# Altium schematic symbol library TriggersLib.SchLib: 41 symbols
Pins are listed as number, name and electrical type; pins without a type are passive.

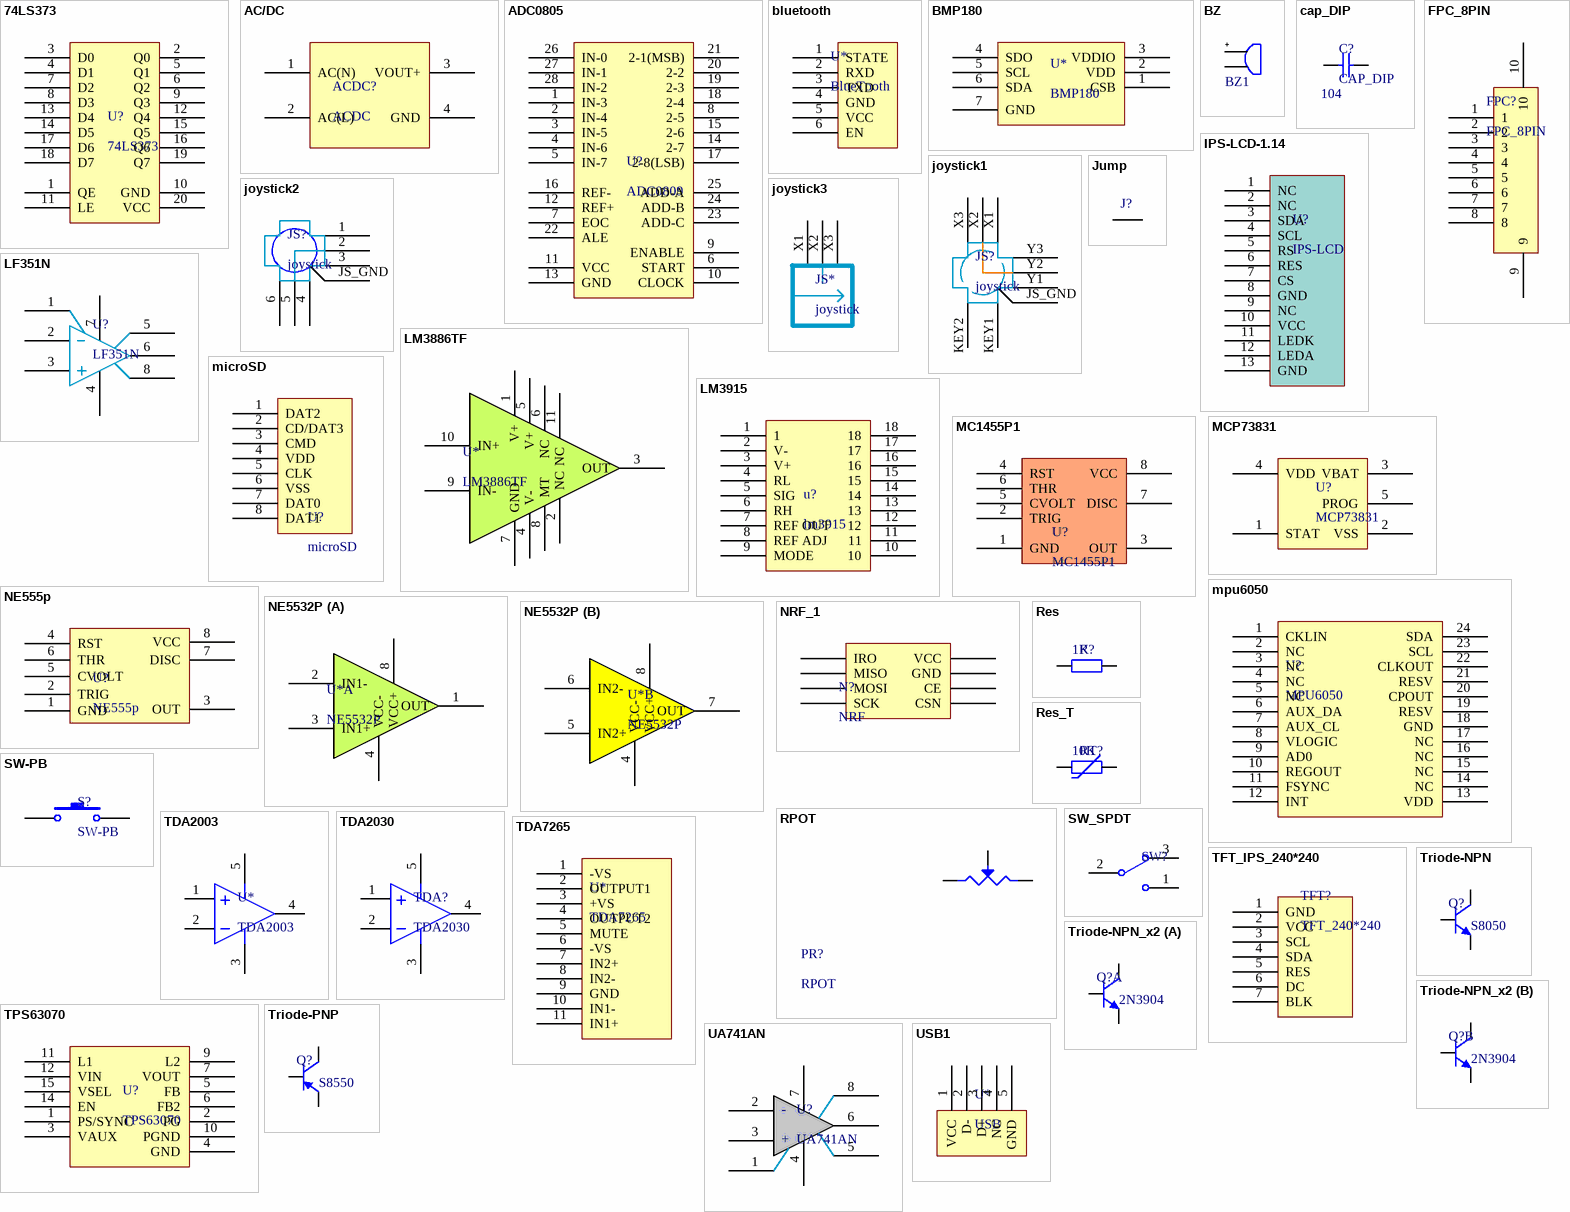
[diagram p0: symbols 74LS373 to USB1]

## 74LS373
designator U?
三态输出的八D锁存器
footprint DIP20
pins: 1 QE, 2 Q0, 3 D0, 4 D1, 5 Q1, 6 Q2, 7 D2, 8 D3, 9 Q3, 10 GND, 11 LE, 12 Q4, 13 D4, 14 D5, 15 Q5, 16 Q6, 17 D6, 18 D7, 19 Q7, 20 VCC

## AC/DC
designator ACDC?, comment ACDC
ACDC电源模块
footprint ACDC (ACDC电源模块)
pins: 1 AC(N), 2 AC(L), 3 VOUT+, 4 GND

## ADC0805
designator U?, comment ADC0809
8位A/D转换器
footprint SOP28
pins: 1 IN-3, 2 IN-4, 3 IN-5, 4 IN-6, 5 IN-7, 6 START, 7 EOC, 8 2-5, 9 ENABLE, 10 CLOCK, 11 VCC, 12 REF+, 13 GND, 14 2-7, 15 2-6, 16 REF-, 17 2-8(LSB), 18 2-4, 19 2-3, 20 2-2, 21 2-1(MSB), 22 ALE, 23 ADD-C, 24 ADD-B, 25 ADD-A, 26 IN-0, 27 IN-1, 28 IN-2

## bluetooth
designator U*, comment BlueTooth
蓝牙模块
footprint Buletooth_DIP
pins: 1 STATE, 2 RXD, 3 TXD, 4 GND, 5 VCC, 6 EN

## BMP180
designator U*
数字气压传感器
footprint LGA-7 (LGA-7Pin)
pins: 1 CSB, 2 VDD, 3 VDDIO, 4 SDO, 5 SCL, 6 SDA, 7 GND

## BZ
designator BZ1, comment buzz  (value not drawn)
蜂鸣器
footprint Buzz SMD5020 (Footprint not found)
pins: 1, 2
text: +

## cap_DIP
designator C?, comment CAP_DIP  CAP: 104
footprint C5X7W1
footprint C4X7
footprint C5X7W2
footprint C5X8 (RB.1/.2)
footprint C6X8
footprint CAP4MM
pins: 1, 2

## FPC_8PIN
designator FPC?
FPC插槽
footprint FPC-0.5MM-LSXJ-H2.0-8P
pins: 1, 2, 3, 4, 5, 6, 7, 8, 9, 10

## IPS-LCD-1.14
designator U?, comment IPS-LCD
IPS-LCD-1.14寸裸屏spi接口
footprint 1.14IPS-LCD (1.14寸IPS-LCD裸屏SPI接口)
pins: 1 NC, 2 NC, 3 SDA, 4 SCL, 5 RS, 6 RES, 7 CS, 8 GND, 9 NC, 10 VCC, 11 LEDK, 12 LEDA, 13 GND

## joystick1
designator JS?, comment joystick
双轴有开关摇杆; JS: *
footprint JoyStick1
pins: JS_GND 7, KEY1 11, KEY2 12, X1 6, X2 5, X3 4, Y1 3, Y2 2, Y3 1

## joystick2
designator JS?, comment joystick
双轴无开关摇杆; JS: *
footprint JOYSTICK2
footprint JOYSTICK3 (摇杆)
pins: 1, 2, 3, 4, 5, 6, JS_GND 7

## joystick3
designator JS*, comment joystick
单轴摇杆
footprint JOYSTICK4 (摇杆)
footprint JOYSTICK5 (摇杆)
pins: X1 1, X2 2, X3 3

## Jump
designator J?, comment 0R  (value not drawn)
_Accuracy: 5%; _Power: 1/8W; _Name: Res; _Footprint: 0805; _Drift: 100ppm; _Comma: ,; _Specification: Res,0805,0R,5%,1/8W,100ppm; _Value: 0R
footprint 电阻_R0402
footprint 电阻_R0603
footprint 电阻_R0805
footprint 电阻_R1206
pins: 1, 2

## LF351N
designator U?
运算放大器
footprint DIP8
footprint DIP8_L
pins: 1, 2 -, 3 +, 4, 5, 6, 7, 8

## LM3886TF
designator U*
68W音频功率放大器
footprint TO-220-11
pins: 1 V+, 2 NC, 3 OUT, 4 V-, 5 V+, 6 NC, 7 GND, 8 MT, 9 IN-, 10 IN+, 11 NC

## LM3915
designator u?, comment lm3915
pins: 1, 2 V-, 3 V+, 4 RL, 5 SIG, 6 RH, 7 REF OUT, 8 REF ADJ, 9 MODE, 10, 11, 12, 13, 14, 15, 16, 17, 18

## MC1455P1
designator U?
footprint DIP8_L
footprint DIP8
pins: 1 GND, 2 TRIG, 3 OUT, 4 RST, 5 CVOLT, 6 THR, 7 DISC, 8 VCC

## MCP73831
designator U?
线性充电管理控制器
footprint SOT23-5
pins: 1 STAT, 2 VSS, 3 VBAT, 4 VDD, 5 PROG

## microSD
designator U?
footprint microSD
pins: 1 DAT2, 2 CD/DAT3, 3 CMD, 4 VDD, 5 CLK, 6 VSS, 7 DAT0, 8 DAT1

## mpu6050
designator U?, comment MPU6050
footprint QFN24
pins: 1 CKLIN, 2 NC, 3 NC, 4 NC, 5 NC, 6 AUX_DA, 7 AUX_CL, 8 VLOGIC, 9 AD0, 10 REGOUT, 11 FSYNC, 12 INT, 13 VDD, 14 NC, 15 NC, 16 NC, 17 NC, 18 GND, 19 RESV, 20 CPOUT, 21 RESV, 22 CLKOUT, 23 SCL, 24 SDA

## NE555p
designator U?
时基集成芯片
footprint DIP8
footprint 运放_DIP8
pins: 1 GND, 2 TRIG, 3 OUT, 4 RST, 5 CVOLT, 6 THR, 7 DISC, 8 VCC

## NE5532P
designator U*
低噪声高性能运放
footprint 运放_DIP8
part A pins: 1 OUT, 2 IN1-, 3 IN1+, 4 VCC-, 8 VCC+
part B pins: 4 VCC-, 5 IN2+, 6 IN2-, 7 OUT, 8 VCC+

## NRF_1
designator N?, comment NRF
footprint NRF-1
footprint NRF-2
pins: CE, CSN, GND, IRO, MISO, MOSI, SCK, VCC

## Res
designator R?, comment 1K
_Accuracy: 1%; _Power: 1/8W; _Name: Res; _Footprint: 0805; _Drift: 100ppm; _Comma: ,; _Specification: Res,0805,1K,1%,1/8W,100ppm; _Value: 1K
footprint 电阻_1/2W
footprint 电阻_1/4W
footprint 电阻_1/8W
footprint 电阻_1W
footprint 电阻_2W
footprint 电阻_5W 22X5mm
footprint 电阻_DIP RES_1W
footprint 电阻_DIP RES_2W
footprint 电阻_DIP Res_5W
footprint 电阻_R0402
footprint 电阻_R0603
footprint 电阻_R0805
footprint 电阻_R1206
footprint 电阻_R2512
footprint 电阻_5W 9.8mm
footprint 电阻_DIP RES_1/4W
footprint 电阻_5W_L=15mm
footprint 电阻_R2725
pins: 1, 2

## Res_T
designator RT?, comment 10K
_Accuracy: 1%; _Name: NTC; _Footprint: 0805; _Comma: ,; _Specification: NTC,0805,10K,3435K,1%; _Coefficient: 3435K; _Value: 10K
footprint 电阻_R0402
footprint 电阻_R0603
footprint 电阻_R0805
footprint 电阻_R1206
footprint PTC_SA82SB0
pins: 1, 2

## RPOT
designator PR?
电位器; R: 100K
footprint Rpot_UP1
footprint POT-R0911G-A1
footprint POT-大可调
footprint pot3306F
footprint POT4MM-2 (Square Trimming Potentiometer)
footprint VR3 (Tapped Resistor; 3 Leads)
footprint VR4 (Feed-Through Capacitor; 3 Leads)
pins: 1, 2, 3 W

## SW-PB
designator S?
按键
footprint KEY_6*6mm
footprint KEY_8*8mm
footprint KEY-TE26EA
footprint KEY_3.5*4.7
pins: 1, 2

## SW_SPDT
designator SW?, comment SPDT  (value not drawn)
开关-两档
footprint SW_TG
footprint MSS3-Q-T/R (贴片开关-两档)
footprint SW2766
footprint SW2-3
pins: 1, 2, 3

## TDA2003
designator U*
音频功放
footprint TO220_5
pins: 1 IN+, 2 IN-, 3 V-, 4 OUT, 5 V+

## TDA2030
designator TDA?
音频功放
footprint TO220_5
pins: 1 IN+, 2 IN-, 3 V-, 4 OUT, 5 V+

## TDA7265
designator U*
音频功放
footprint LC-Multiwatt11V
pins: 1 -VS, 2 OUTPUT1, 3 +VS, 4 OUTPUT2, 5 MUTE, 6 -VS, 7 IN2+, 8 IN2-, 9 GND, 10 IN1-, 11 IN1+

## TFT_IPS_240*240
designator TFT?, comment TFT_240*240
TFT屏幕; TFT: *
footprint TFT_IPS_240*240
pins: 1 GND, 2 VCC, 3 SCL, 4 SDA, 5 RES, 6 DC, 7 BLK

## TPS63070
designator U?
降压-升压转换器
footprint VQFN-15-HR (VQFN)
pins: 1 PS/SYNC, 2 PG, 3 VAUX, 4 GND, 5 FB, 6 FB2, 7 VOUT, 9 L2, 10 PGND, 11 L1, 12 VIN, 14 EN, 15 VSEL

## Triode-NPN
designator Q?, comment S8050
_Comma: ,; _Current: 500mA; _Footprint: SOT-23; _Name: Triode; _Specification: Triode,NPN,S8050,SOT-23,500mA,40V; _Voltage: 40V; _Polarity: NPN; _Model: S8050
footprint 三极管_SOT-23
footprint 三极管_TO-3P A
footprint 三极管_TO-3P B
footprint 三极管_TO-3PL
footprint 三极管_TO-92_EBC
footprint 三极管_TO-92_ECB
footprint 三极管_TO-220
footprint 三极管_TO-220 A
footprint 三极管_TO-247
footprint 三极管_TO-247 A
footprint 三极管_TO-247 B
footprint 三极管_TO-126
footprint 三极管_TO-252
pins: 1 B, 2 C, 3 E

## Triode-NPN_x2
designator Q?, comment 2N3904
_Comma: ,; _Current: 200mA; _Footprint: SOT-363; _Name: Triode; _Polarity: NPN; _Specification: Triode,NPN,2N3904,SOT-363,200mA,40V; _Voltage: 40V; _Model: 2N3904
footprint 三极管_SOT323-6
part A pins: 1 E, 2 B, 6 C
part B pins: 3 C, 4 E, 5 B

## Triode-PNP
designator Q?, comment S8550
_Comma: ,; _Current: 500mA; _Footprint: SOT-23; _Name: Triode; _Polarity: PNP; _Specification: Triode,PNP,S8550,SOT-23,500mA,40V; _Voltage: 40V; _Model: S8550
footprint 三极管_SOT-23
footprint 三极管_TO-3P A
footprint 三极管_TO-3P B
footprint 三极管_TO-3PL
footprint 三极管_TO-92_EBC
footprint 三极管_TO-92_ECB
footprint 三极管_TO-220
footprint 三极管_TO-220 A
footprint 三极管_TO-247
footprint 三极管_TO-247 A
footprint 三极管_TO-247 B
footprint 三极管_TO-126
footprint 三极管_TO-252
pins: 1 B, 2 C, 3 E

## UA741AN
designator U?
pins: 1, 2, 3, 4, 5, 6, 7, 8
text: -; +

## USB1
designator U*, comment USB
USB公头
footprint USB1
pins: 1 VCC, 2 D-, 3 D+, 4 NC, 5 GND

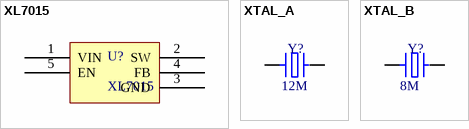
[diagram p1: symbols XL7015 to XTAL_B]

## XL7015
designator U?
升压-降压转换器
pins: 1 VIN, 2 SW, 3 GND, 4 FB, 5 EN

## XTAL_A
designator Y?, comment 12M
_Name: CRYSTALS; _Comma: ,; _Specification: CRYSTALS,12M,*,10ppm,12pF; _Accuracy: 10ppm; _CL: 12pF; _Footprint: *; _Frequency: 12M
footprint 晶振_CRYSTAL
footprint 晶振_CRYSTAL_T
footprint 晶振_3215 (XTAL SMD 3.2 x 1.5 mm)
footprint 晶振_2012
pins: 1, 2

## XTAL_B
designator Y?, comment 8M
_Comma: ,; _Footprint: 5032; _Name: CRYSTALS; _Specification: CRYSTALS,8M,5032,10ppm,12pF; _Accuracy: 10ppm; _CL: 12pF; _Frequency: 8M
footprint 晶振_3225
footprint 晶振_2016
footprint 晶振_5032
pins: 0 hidden to GND, 1, 2